# EAGLE library part HDR-2X4 (library connector)
2x4 HDR size -Breakable strip
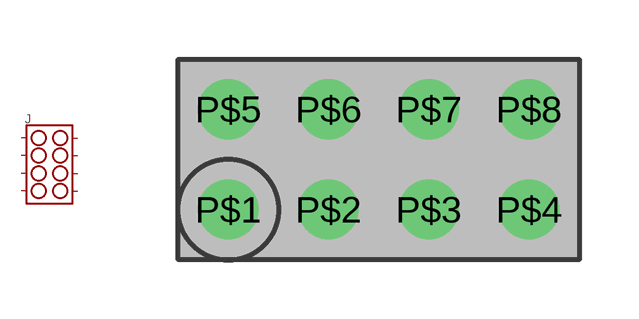
[diagram p2: symbol with the pads of HDR-2X4; footprint HDR-2X4]

Designator prefix J

## HDR-2X4  [HDR-2X4]
P$1  P$1
P$2  P$2
P$3  P$3
P$4  P$4
P$5  P$5
P$6  P$6
P$7  P$7
P$8  P$8

## Footprint HDR-2X4 (pad centres in mm)
drill 1.016: P$1 -3.81,-1.27; P$2 -1.27,-1.27; P$3 1.27,-1.27; P$4 3.81,-1.27; P$5 -3.81,1.27; P$6 -1.27,1.27; P$7 1.27,1.27; P$8 3.81,1.27